# Altium footprint library DL4148.PcbLib: 1 footprints
Each footprint in its own frame and in the unit in brackets; x right, y up, seen from the top. Pads: shape width x height; smd on the part's side, far side on the other; paste and mask are expansions set on the pad; w line width, h text height; cw(c..) or ccw(c..) is an arc to the next point about the centre after c.
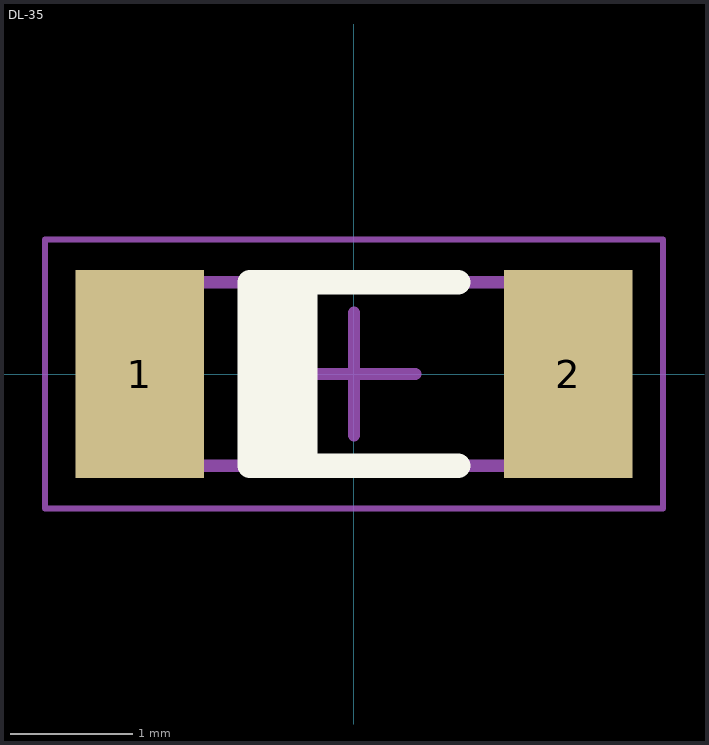
[diagram p0: the footprint, top view; thin cyan lines are the x and y axes]

## DL-35 [mm] "MELF Diode, 2-Leads, Body 3,60x1,47mm"
height 1.5
pads (2):
  rect 1.05x1.7 smd: 1(-1.75,0) 2(1.75,0)
Top Overlay:
  rectangle: -0.85,-0.75 -0.3,0.75
  lines w0.2: 0.85,-0.75 -0.85,-0.75 -0.85,0.75 0.85,0.75
Mechanical 13:
  lines w0.1: -1.85,-0.75 -1.85,0.75 1.85,0.75 1.85,-0.75 -1.85,-0.75
Mechanical 15:
  lines w0.05: -2.525,-1.1 -2.525,1.1 2.525,1.1 2.525,-1.1 -2.525,-1.1
  lines w0.1: -0.5,0 0.5,0 ; 0,-0.5 0,0.5
3D body: height 1.49, standoff 0, extent -1.85,-0.75 -1.45,0.747
3D body: height 1.48, standoff 0.04, extent -0.85,-0.721 -0.25,0.718
3D body: height 1.48, standoff 0.04, extent -1.45,-0.72 1.45,0.717
3D body: height 1.49, standoff 0, extent 1.45,-0.75 1.85,0.747